# EAGLE library part STLZ_1550/8GV (library con-ptr-stlz1550)
HEADER
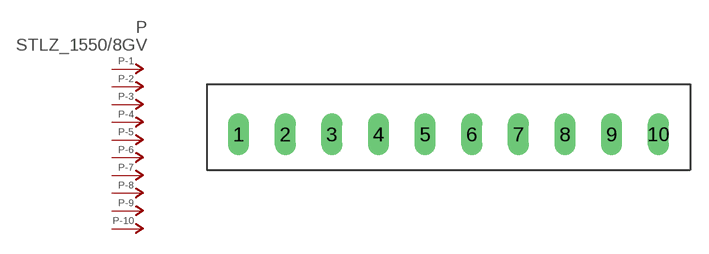
[diagram p5: symbol with the pads of PAC-10; footprint PAC-10]

Designator prefix P; gates -1=P-NV -2=P-N -3=P-N -4=P-N -5=P-N -6=P-N -7=P-N -8=P-N -9=P-N -10=P-N

## STLZ_1550/8GV (OC_TME: 15EDGVC3.81-10P)  [PAC-10]
1  -1:P  pas
2  -2:P  pas
3  -3:P  pas
4  -4:P  pas
5  -5:P  pas
6  -6:P  pas
7  -7:P  pas
8  -8:P  pas
9  -9:P  pas
10  -10:P  pas

## Footprint PAC-10 (pad centres in mm)
HEADER
drill 1.15 long: 1 -17.145,0; 2 -13.335,0; 3 -9.525,0; 4 -5.715,0; 5 -1.905,0; 6 1.905,0; 7 5.715,0; 8 9.525,0; 9 13.335,0; 10 17.145,0